# Altium schematic symbol library Transformer,SMPS,Asymmetric,2.91_1,2500V,SMD.Schlib: 1 symbol
Pins are listed as number, name and electrical type; pins without a type are passive.

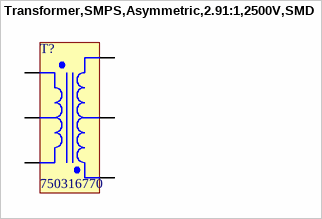
[diagram p0: symbol Transformer,SMPS,Asymmetric,2.91:1,2500V,SMD]

## Transformer,SMPS,Asymmetric,2.91:1,2500V,SMD
designator T?, comment 750316770
Forward, Push-Pull Converters For For DC/DC Converters SMPS Transformer 2500Vrms Isolation 400kHz Surface Mount
pins: 1, 2, 3, 4, 5, 6